# Altium footprint library castellated_modules.PcbLib: 1 footprints
Each footprint in its own frame and in the unit in brackets; x right, y up, seen from the top. Pads: shape width x height; smd on the part's side, far side on the other; paste and mask are expansions set on the pad; w line width, h text height; cw(c..) or ccw(c..) is an arc to the next point about the centre after c.
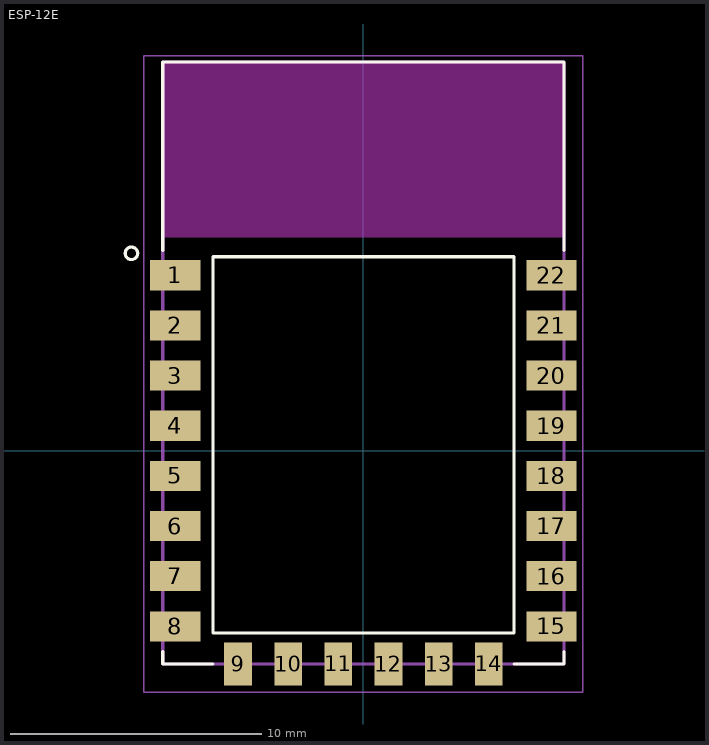
[diagram p0: the footprint, top view; thin cyan lines are the x and y axes]

## ESP-12E [mm]
pads (22):
  rect 2x1.2 smd: 1(-7.5,7) 2(-7.5,5) 3(-7.5,3) 4(-7.5,1) 5(-7.5,-1) 6(-7.5,-3) 7(-7.5,-5) 8(-7.5,-7) 15(7.5,-7) 16(7.5,-5) 17(7.5,-3) 18(7.5,-1) 19(7.5,1) 20(7.5,3) 21(7.5,5) 22(7.5,7)
  rect 1.1x1.7 smd: 9(-5,-8.5) 10(-3,-8.5) 11(-1,-8.5) 12(1,-8.5) 13(3,-8.5) 14(5,-8.5)
Top Overlay:
  circle w0.127: c-9.25,7.875 r0.25
  lines w0.127: -8,-8 -8,-8.5 -6,-8.5 ; -8,8 -8,15.5 8,15.5 8,8 ; 6,-8.5 8,-8.5 8,-8 ; -6,-7.26 -6,7.74 6,7.74 6,-7.26 -6,-7.26
Keep-Out Layer:
  region: 8,8.51 -8.009,8.51 -8.009,15.5 8,15.5
  region: 8,8.51 -8.009,8.51 -8.009,15.5 8,15.5
Mechanical 13:
  lines w0.127: -8,-8.5 -8,15.5 8,15.5 8,-8.5 -8,-8.5
Mechanical 15:
  lines w0.05: -8.75,-9.625 -8.75,15.75 8.75,15.75 8.75,-9.625 -8.75,-9.625
3D body "step_temp.STEP": height 3, standoff 0, extent -8,-8.5 8,15.5